# EAGLE library part NPTC202KFMS-RC (library NPTC202KFMS-RC_Bottom_Layer_Footprint_Modified for Pi)
40 Position Header Connector Surface Mount
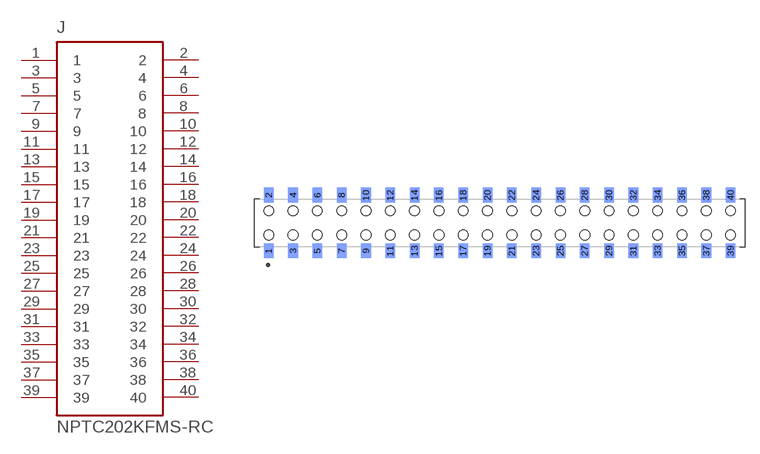
[diagram p0: symbol with the pads of SULLINS_NPTC202KFMS-RC; footprint SULLINS_NPTC202KFMS-RC]

Designator prefix J

## NPTC202KFMS-RC (DESCRIPTION: 40 Position Header Connector 0.100 (2.54mm) Surface Mount Tin; DIGI-KEY_PART_NUMBER: S5690-ND; MF: Sullins Connector; MP: NPTC202KFMS-RC; PACKAGE: None)  [SULLINS_NPTC202KFMS-RC]
1  1  pas
2  2  pas
3  3  pas
4  4  pas
5  5  pas
6  6  pas
7  7  pas
8  8  pas
9  9  pas
10  10  pas
11  11  pas
12  12  pas
13  13  pas
14  14  pas
15  15  pas
16  16  pas
17  17  pas
18  18  pas
19  19  pas
20  20  pas
21  21  pas
22  22  pas
23  23  pas
24  24  pas
25  25  pas
26  26  pas
27  27  pas
28  28  pas
29  29  pas
30  30  pas
31  31  pas
32  32  pas
33  33  pas
34  34  pas
35  35  pas
36  36  pas
37  37  pas
38  38  pas
39  39  pas
40  40  pas

## Footprint SULLINS_NPTC202KFMS-RC (pad centres in mm)
smd 1 x 1.56 bottom: 1 -24.13,-2.905; 2 -24.13,2.905; 3 -21.59,-2.905; 4 -21.59,2.905; 5 -19.05,-2.905; 6 -19.05,2.905; 7 -16.51,-2.905; 8 -16.51,2.905; 9 -13.97,-2.905; 10 -13.97,2.905; 11 -11.43,-2.905; 12 -11.43,2.905; 13 -8.89,-2.905; 14 -8.89,2.905; 15 -6.35,-2.905; 16 -6.35,2.905; 17 -3.81,-2.905; 18 -3.81,2.905; 19 -1.27,-2.905; 20 -1.27,2.905; 21 1.27,-2.905; 22 1.27,2.905; 23 3.81,-2.905; 24 3.81,2.905; 25 6.35,-2.905; 26 6.35,2.905; 27 8.89,-2.905; 28 8.89,2.905; 29 11.43,-2.905; 30 11.43,2.905; 31 13.97,-2.905; 32 13.97,2.905; 33 16.51,-2.905; 34 16.51,2.905; 35 19.05,-2.905; 36 19.05,2.905; 37 21.59,-2.905; 38 21.59,2.905; 39 24.13,-2.905; 40 24.13,2.905
hole 1.02 at -1.27,1.27
hole 1.02 at -3.81,1.27
hole 1.02 at -6.35,1.27
hole 1.02 at -11.43,1.27
hole 1.02 at -8.89,1.27
hole 1.02 at -13.97,1.27
hole 1.02 at -16.51,1.27
hole 1.02 at -19.05,1.27
hole 1.02 at -21.59,1.27
hole 1.02 at -24.13,1.27
hole 1.02 at 24.13,1.27
hole 1.02 at 21.59,1.27
hole 1.02 at 19.05,1.27
hole 1.02 at 13.97,1.27
hole 1.02 at 16.51,1.27
hole 1.02 at 11.43,1.27
hole 1.02 at 8.89,1.27
hole 1.02 at 6.35,1.27
hole 1.02 at 3.81,1.27
hole 1.02 at 1.27,1.27
hole 1.02 at -1.27,-1.27
hole 1.02 at -3.81,-1.27
hole 1.02 at -6.35,-1.27
hole 1.02 at -11.43,-1.27
hole 1.02 at -8.89,-1.27
hole 1.02 at -13.97,-1.27
hole 1.02 at -16.51,-1.27
hole 1.02 at -19.05,-1.27
hole 1.02 at -21.59,-1.27
hole 1.02 at -24.13,-1.27
hole 1.02 at 24.13,-1.27
hole 1.02 at 21.59,-1.27
hole 1.02 at 19.05,-1.27
hole 1.02 at 13.97,-1.27
hole 1.02 at 16.51,-1.27
hole 1.02 at 11.43,-1.27
hole 1.02 at 8.89,-1.27
hole 1.02 at 6.35,-1.27
hole 1.02 at 3.81,-1.27
hole 1.02 at 1.27,-1.27